# EAGLE library part USB_MICRO_B (library connector)
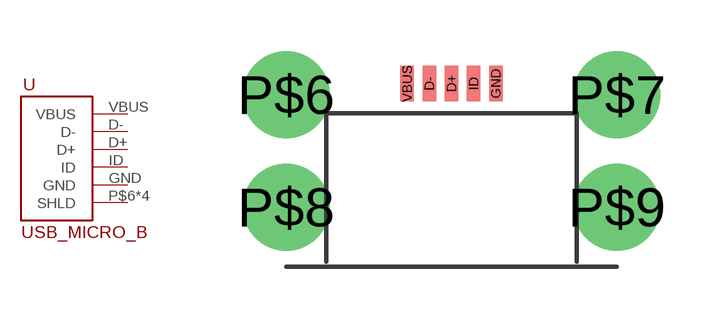
[diagram p1: symbol with the pads of USB_MICRO_B; footprint USB_MICRO_B]

Designator prefix -

## USB_MICRO_B  [USB_MICRO_B]
D+  D+
D-  D-
GND  GND
ID  ID
P$6  SHLD
P$7  SHLD
P$8  SHLD
P$9  SHLD
VBUS  VBUS

## Footprint USB_MICRO_B (pad centres in mm)
smd 0.4 x 1.05: D+ 0,0; D- -0.65,0; GND 1.3,0; ID 0.65,0; VBUS -1.3,0
drill 1.7: P$6 -4.85,-0.325; P$7 4.85,-0.325; P$8 -4.85,-3.625; P$9 4.85,-3.625